# Altium footprint library 4.7uH_Ind_IHLP5050CEER4R7M01.PcbLib: 1 footprints
Each footprint in its own frame and in the unit in brackets; x right, y up, seen from the top. Pads: shape width x height; smd on the part's side, far side on the other; paste and mask are expansions set on the pad; w line width, h text height; cw(c..) or ccw(c..) is an arc to the next point about the centre after c.
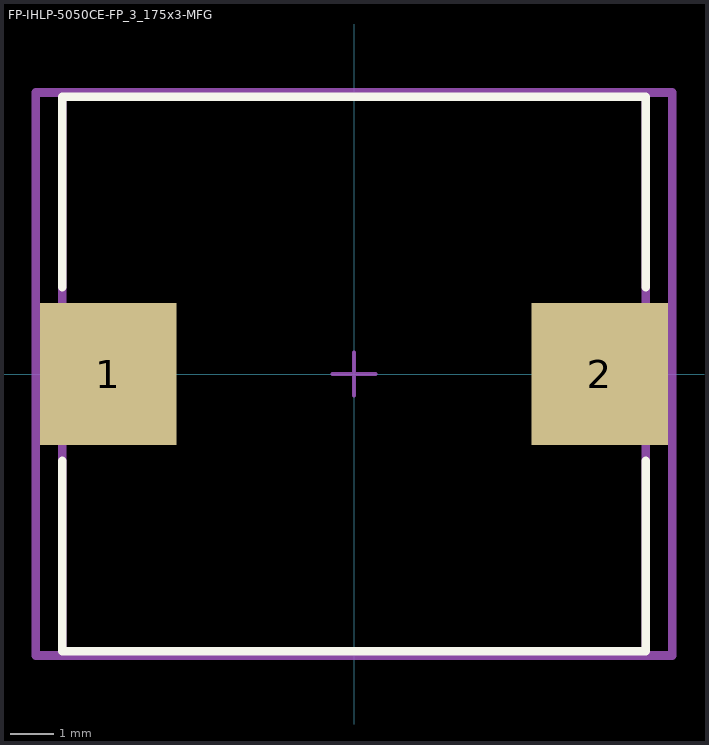
[diagram p0: the footprint, top view; thin cyan lines are the x and y axes]

## FP-IHLP-5050CE-FP_3_175x3-MFG [mm]
pads (2):
  rect 3.175x3.3 smd paste+0 mask+0: 1(-5.715,0) 2(5.715,0)
Top Overlay:
  lines w0.2: -6.79,-2.025 -6.79,-6.45 6.79,-6.45 6.79,-2.025 ; -6.79,2.025 -6.79,6.45 6.79,6.45 6.79,2.025
Top Assembly:
  lines w0.2: -7.402,-6.55 -7.402,6.55 7.402,6.55 7.402,-6.55 -7.402,-6.55
  text ".Designator" at 0,0.188 h1
Top 3D Body:
  lines w0.2: -6.79,-6.45 -6.79,6.45 6.79,6.45 6.79,-6.45 -6.79,-6.45
Top Courtyard:
  lines w0.2: -7.402,-6.55 -7.402,6.55 7.402,6.55 7.402,-6.55 -7.402,-6.55
Top Component Center:
  lines w0.1: -0.5,0 0.5,0 ; 0,-0.5 0,0.5
3D body "Ind_Vishay_IHLP5050CEEBR68M01_eec.STEP": height 0.25, standoff 0, extent -7.402,-6.55 7.402,6.55